# Altium footprint library Connectors.PcbLib: 38 footprints (part 1 of 3)
Each footprint in its own frame and in the unit in brackets; x right, y up, seen from the top. Pads: shape width x height; smd on the part's side, far side on the other; paste and mask are expansions set on the pad; w line width, h text height; cw(c..) or ccw(c..) is an arc to the next point about the centre after c.
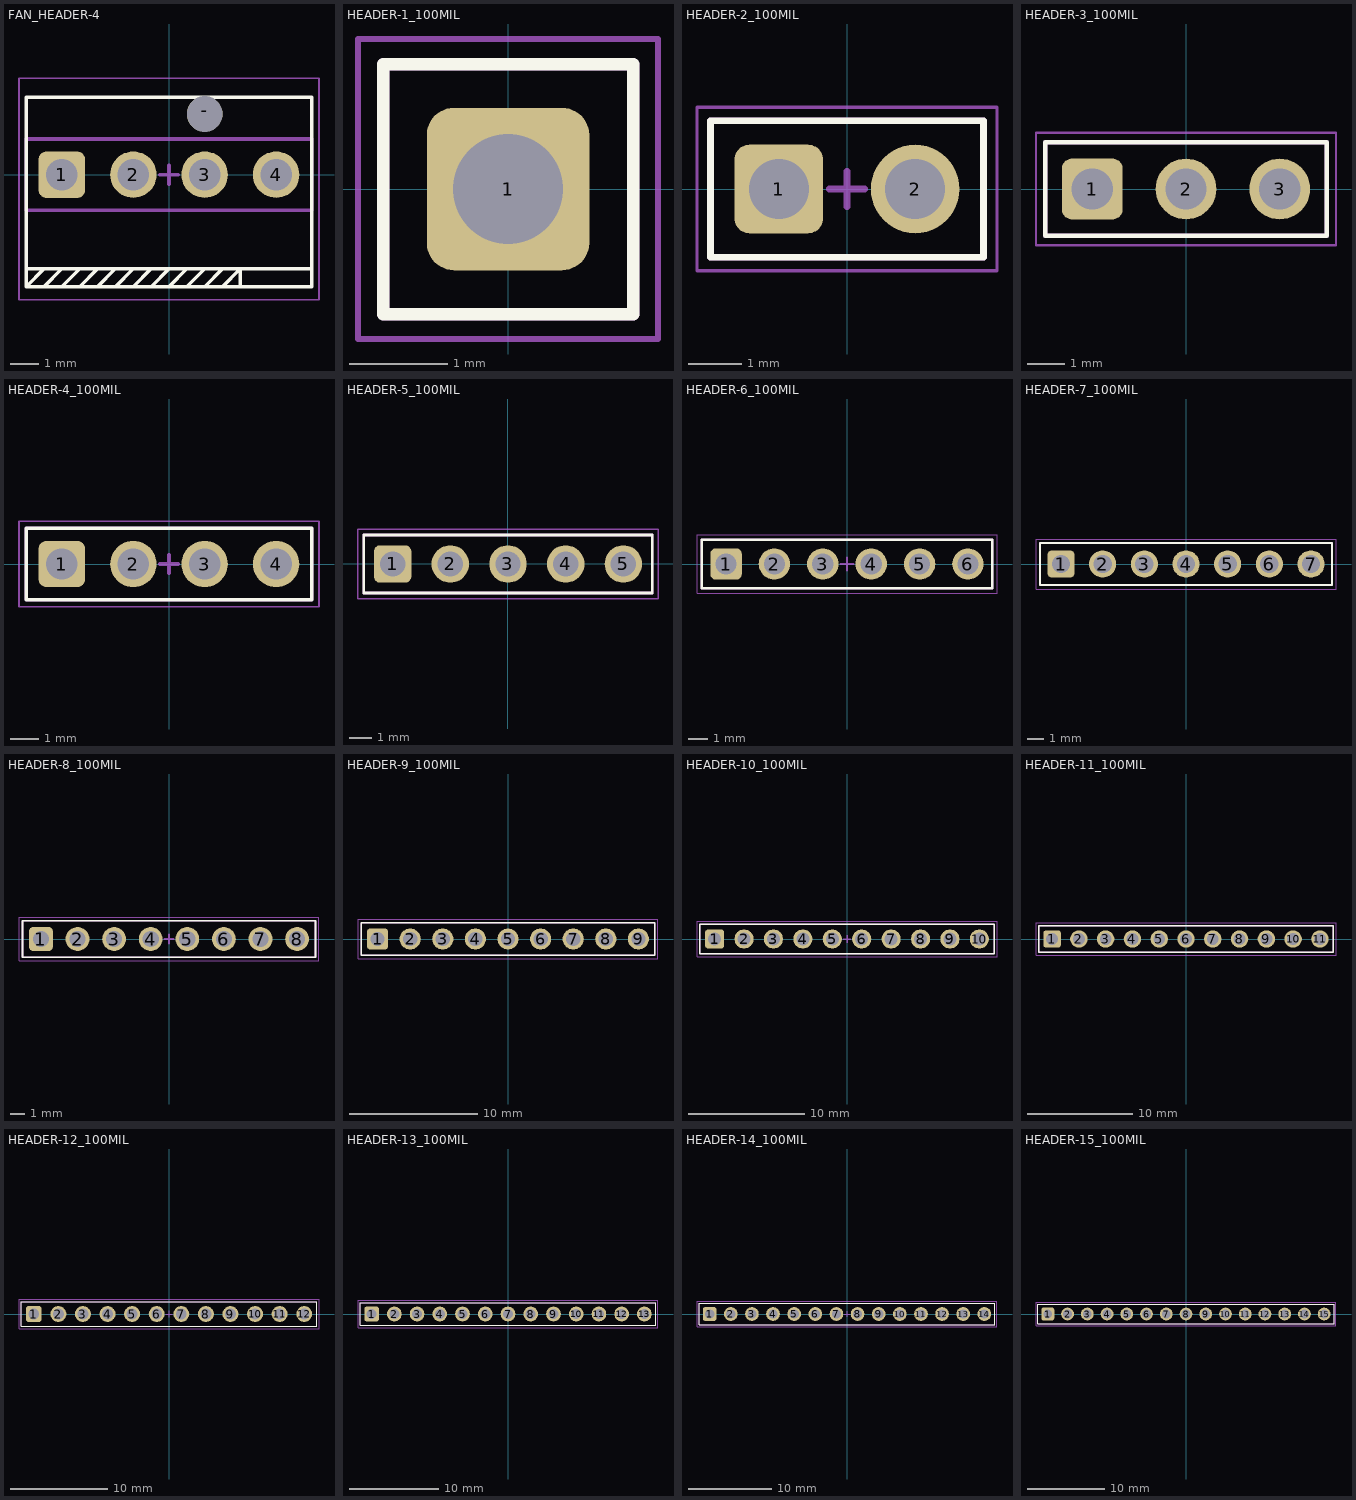
[diagram p0: the footprints below, top view; thin cyan lines are the x and y axes]

## FAN_HEADER-4 [mil] "0470531000"
height 140
pads (5):
  rrect33% 65x65 hole 44: 1(-150,0)
  round 65 hole 44: 2(-50,0) 3(50,0) 4(150,0)
  round 50 hole 50 unplated: -(50,85.04)
Top Overlay:
  lines w5: -200,-131.76 199.29,-131.76 ; -175.11,-131.86 -200,-156.76 ; -175,-156.76 -150.11,-131.86 ; -150,-156.76 -125.11,-131.86 ; -125,-156.76 -100.11,-131.86 ; -100,-156.76 -75.11,-131.86 ; -75,-156.76 -50.11,-131.86 ; -50,-156.76 -25.11,-131.86 ; -25,-156.76 -0.11,-131.86 ; 0,-156.76 24.89,-131.86 ; 25,-156.76 49.89,-131.86 ; 50,-156.76 74.89,-131.86 ; 75,-156.76 99.89,-131.86 ; 100,-156.76 100,-131.76 ; -200,-156.76 200,-156.76 200,108.24 -200,108.24 -200,-156.76
Top Designator:
  text "'.Comment'" at -85.76,-46.66 h20
  text ".Designator" at -100.75,-6.66 h20
Top Assembly (Mech13):
  circle w10: c-150,0 r2.5
  lines w5: -13,0 13,0 ; 0,-13 0,13 ; -200,-50 -200,50 200,50 200,-50 -200,-50
Top Courtyard (Mech15):
  lines w2.5: -210,-175 -210,135 210,135 210,-175 -210,-175
3D body "470531000.stp": height 394.2, standoff -137.29, extent -200.79,-129.92 200.79,100

## HEADER-1_100MIL [mil] "Based on 68000-101HLF"
height 425
pads (1):
  rrect33% 65x65 hole 44: 1(0,0)
Top Overlay:
  lines w5: -50,-50 -50,50 50,50 50,-50 -50,-50
Top Designator:
  text "'.Comment'" at -85.76,-46.66 h20
  text ".Designator" at -100.75,-6.66 h20
Top Assembly (Mech13):
  circle w10: c0,0 r2.5
  lines w5: -13,0 13,0 ; 0,-13 0,13 ; -50,-50 -50,50 50,50 50,-50 -50,-50
Top Courtyard (Mech15):
  lines w2.5: -60,-60 60,-60 60,60 -60,60 -60,-60
3D body "68000-101HLF--3DModel-STEP-56544.STEP": height 330.81, standoff -94.38, extent -50,-47.44 50,47.44

## HEADER-2_100MIL [mil]
height 425
pads (2):
  rrect33% 65x65 hole 44: 1(-50,0)
  round 65 hole 44: 2(50,0)
Top Overlay:
  lines w5: -100,-50 -100,50 100,50 100,-50 -100,-50
Top Designator:
  text "'.Comment'" at -85.76,-46.66 h20
  text ".Designator" at -100.75,-6.66 h20
Top Assembly (Mech13):
  circle w10: c-50,0 r2.5
  lines w5: -13,0 13,0 ; 0,-13 0,13 ; -100,-50 -100,50 100,50 100,-50 -100,-50
Top Courtyard (Mech15):
  lines w2.5: -110,-60 110,-60 110,60 -110,60 -110,-60
3D body "step_temp.STEP": height 330.31, standoff -94.88, extent -100,-47.44 100,47.44

## HEADER-3_100MIL [mil]
height 425
pads (3):
  rrect33% 65x65 hole 44: 1(-100,0)
  round 65 hole 44: 2(0,0) 3(100,0)
Top Overlay:
  lines w5: -150,-50 150,-50 150,50 -150,50 -150,-50
Top Designator:
  text "'.Comment'" at -85.76,-46.66 h20
  text ".Designator" at -100.75,-6.66 h20
Top Assembly (Mech13):
  circle w10: c-100,0 r2.5
  lines w5: -13,0 13,0 ; 0,-13 0,13 ; -150,-50 150,-50 150,50 -150,50 -150,-50
Top Courtyard (Mech15):
  lines w2.5: -160,-60 -160,60 160,60 160,-60 -160,-60
3D body "68000-103HLF.step": height 330.81, standoff -94.38, extent -150,-47.44 150,47.44

## HEADER-4_100MIL [mil]
height 425
pads (4):
  rrect33% 65x65 hole 44: 1(-150,0)
  round 65 hole 44: 2(-50,0) 3(50,0) 4(150,0)
Top Overlay:
  lines w5: -200,-50 200,-50 200,50 -200,50 -200,-50
Top Designator:
  text ".Designator" at -100.75,-6.66 h20
  text "'.Comment'" at -85.76,-46.66 h20
Top Assembly (Mech13):
  circle w10: c-150,0 r2.5
  lines w5: -13,0 13,0 ; 0,-13 0,13 ; -200,-50 200,-50 200,50 -200,50 -200,-50
Top Courtyard (Mech15):
  lines w2.5: -210,-60 -210,60 210,60 210,-60 -210,-60
3D body "68000-104HLF.step": height 330.81, standoff -94.38, extent -200,-47.44 200,47.44

## HEADER-5_100MIL [mil]
height 425
pads (5):
  rrect33% 65x65 hole 44: 1(-200,0)
  round 65 hole 44: 2(-100,0) 3(0,0) 4(100,0) 5(200,0)
Top Overlay:
  lines w5: -250,-50 -250,50 250,50 250,-50 -250,-50
Top Designator:
  text ".Designator" at -100.75,-6.66 h20
  text "'.Comment'" at -85.76,-46.66 h20
Top Assembly (Mech13):
  circle w10: c-200,0 r2.5
  lines w5: -13,0 13,0 ; 0,-13 0,13 ; -250,-50 -250,50 250,50 250,-50 -250,-50
Top Courtyard (Mech15):
  lines w2.5: -260,-60 260,-60 260,60 -260,60 -260,-60
3D body "68000-105HLF--3DModel-STEP-56544.STEP": height 330.81, standoff -94.38, extent -250,-47.44 250,47.44

## HEADER-6_100MIL [mil]
height 425
pads (6):
  rrect33% 65x65 hole 44: 1(-250,0)
  round 65 hole 44: 2(-150,0) 3(-50,0) 4(50,0) 5(150,0) 6(250,0)
Top Overlay:
  lines w5: -300,-50 -300,50 300,50 300,-50 -300,-50
Top Designator:
  text "'.Comment'" at -85.76,-46.66 h20
  text ".Designator" at -100.75,-6.66 h20
Top Assembly (Mech13):
  circle w10: c-250,0 r2.5
  lines w5: -13,0 13,0 ; 0,-13 0,13 ; -300,-50 -300,50 300,50 300,-50 -300,-50
Top Courtyard (Mech15):
  lines w2.5: -310,-60 310,-60 310,60 -310,60 -310,-60
3D body "68000-106HLF--3DModel-STEP-56544.STEP": height 330.81, standoff -94.38, extent -300,-47.44 300,47.44

## HEADER-7_100MIL [mil]
height 425
pads (7):
  rrect33% 65x65 hole 44: 1(-300,0)
  round 65 hole 44: 2(-200,0) 3(-100,0) 4(0,0) 5(100,0) 6(200,0) 7(300,0)
Top Overlay:
  lines w5: -350,-50 -350,50 350,50 350,-50 -350,-50
Top Designator:
  text "'.Comment'" at -85.76,-46.66 h20
  text ".Designator" at -100.75,-6.66 h20
Top Assembly (Mech13):
  circle w10: c-300,0 r2.5
  lines w5: -13,0 13,0 ; 0,-13 0,13 ; -350,-50 -350,50 350,50 350,-50 -350,-50
Top Courtyard (Mech15):
  lines w2.5: -360,-60 360,-60 360,60 -360,60 -360,-60
3D body "68000-107HLF--3DModel-STEP-56544.STEP": height 330.81, standoff -94.38, extent -350,-47.44 350,47.44

## HEADER-8_100MIL [mil]
height 425
pads (8):
  rrect33% 65x65 hole 44: 1(-350,0)
  round 65 hole 44: 2(-250,0) 3(-150,0) 4(-50,0) 5(50,0) 6(150,0) 7(250,0) 8(350,0)
Top Overlay:
  lines w5: -400,-50 400,-50 400,50 -400,50 -400,-50
Top Designator:
  text "'.Comment'" at -85.76,-46.66 h20
  text ".Designator" at -100.75,-6.66 h20
Top Assembly (Mech13):
  circle w10: c-350,0 r2.5
  lines w5: -13,0 13,0 ; 0,-13 0,13 ; -400,-50 400,-50 400,50 -400,50 -400,-50
Top Courtyard (Mech15):
  lines w2.5: -410,-60 -410,60 410,60 410,-60 -410,-60
3D body "68000-108HLF--3DModel-STEP-56544.STEP": height 330.81, standoff -94.38, extent -400,-47.44 400,47.44

## HEADER-9_100MIL [mil]
height 425
pads (9):
  rrect33% 65x65 hole 44: 1(-400,0)
  round 65 hole 44: 2(-300,0) 3(-200,0) 4(-100,0) 5(0,0) 6(100,0) 7(200,0) 8(300,0) 9(400,0)
Top Overlay:
  lines w5: -450,-50 -450,50 450,50 450,-50 -450,-50
Top Designator:
  text "'.Comment'" at -85.76,-46.66 h20
  text ".Designator" at -100.75,-6.66 h20
Top Assembly (Mech13):
  circle w10: c-400,0 r2.5
  lines w5: -13,0 13,0 ; 0,-13 0,13 ; -450,-50 -450,50 450,50 450,-50 -450,-50
Top Courtyard (Mech15):
  lines w2.5: -460,-60 460,-60 460,60 -460,60 -460,-60
3D body "68000-109HLF--3DModel-STEP-56544.STEP": height 330.81, standoff -94.38, extent -450,-47.44 450,47.44

## HEADER-10_100MIL [mil]
height 425
pads (10):
  rrect33% 65x65 hole 44: 1(-450,0)
  round 65 hole 44: 2(-350,0) 3(-250,0) 4(-150,0) 5(-50,0) 6(50,0) 7(150,0) 8(250,0) 9(350,0) 10(450,0)
Top Overlay:
  lines w5: -500,-50 -500,50 500,50 500,-50 -500,-50
Top Designator:
  text "'.Comment'" at -85.76,-46.66 h20
  text ".Designator" at -100.75,-6.66 h20
Top Assembly (Mech13):
  circle w10: c-450,0 r2.5
  lines w5: -13,0 13,0 ; 0,-13 0,13 ; -500,-50 -500,50 500,50 500,-50 -500,-50
Top Courtyard (Mech15):
  lines w2.5: -510,-60 510,-60 510,60 -510,60 -510,-60
3D body "68000-110HLF--3DModel-STEP-56544.STEP": height 330.81, standoff -94.38, extent -500,-47.44 500,47.44

## HEADER-11_100MIL [mil]
height 425
pads (11):
  rrect33% 65x65 hole 44: 1(-500,0)
  round 65 hole 44: 2(-400,0) 3(-300,0) 4(-200,0) 5(-100,0) 6(0,0) 7(100,0) 8(200,0) 9(300,0) 10(400,0) 11(500,0)
Top Overlay:
  lines w5: -550,-50 550,-50 550,50 -550,50 -550,-50
Top Designator:
  text "'.Comment'" at -85.76,-46.66 h20
  text ".Designator" at -100.75,-6.66 h20
Top Assembly (Mech13):
  circle w10: c-500,0 r2.5
  lines w5: -13,0 13,0 ; 0,-13 0,13 ; -550,-50 550,-50 550,50 -550,50 -550,-50
Top Courtyard (Mech15):
  lines w2.5: -560,-60 -560,60 560,60 560,-60 -560,-60
3D body "68000-111HLF--3DModel-STEP-56544.STEP": height 330.81, standoff -94.38, extent -550,-47.44 550,47.44

## HEADER-12_100MIL [mil]
height 425
pads (12):
  rrect33% 65x65 hole 44: 1(-550,0)
  round 65 hole 44: 2(-450,0) 3(-350,0) 4(-250,0) 5(-150,0) 6(-50,0) 7(50,0) 8(150,0) 9(250,0) 10(350,0) 11(450,0) 12(550,0)
Top Overlay:
  lines w5: -600,-50 600,-50 600,50 -600,50 -600,-50
Top Designator:
  text "'.Comment'" at -85.76,-46.66 h20
  text ".Designator" at -100.75,-6.66 h20
Top Assembly (Mech13):
  circle w10: c-550,0 r2.5
  lines w5: -13,0 13,0 ; 0,-13 0,13 ; -600,-50 600,-50 600,50 -600,50 -600,-50
Top Courtyard (Mech15):
  lines w2.5: -610,-60 -610,60 610,60 610,-60 -610,-60
3D body "68000-112HLF--3DModel-STEP-56544.STEP": height 330.81, standoff -94.38, extent -600,-47.44 600,47.44

## HEADER-13_100MIL [mil]
height 425
pads (13):
  rrect33% 65x65 hole 44: 1(-600,0)
  round 65 hole 44: 2(-500,0) 3(-400,0) 4(-300,0) 5(-200,0) 6(-100,0) 7(0,0) 8(100,0) 9(200,0) 10(300,0) 11(400,0) 12(500,0) 13(600,0)
Top Overlay:
  lines w5: -650,-50 -650,50 650,50 650,-50 -650,-50
Top Designator:
  text "'.Comment'" at -85.76,-46.66 h20
  text ".Designator" at -100.75,-6.66 h20
Top Assembly (Mech13):
  circle w10: c-600,0 r2.5
  lines w5: -13,0 13,0 ; 0,-13 0,13 ; -650,-50 -650,50 650,50 650,-50 -650,-50
Top Courtyard (Mech15):
  lines w2.5: -660,-60 660,-60 660,60 -660,60 -660,-60
3D body "68000-113HLF--3DModel-STEP-56544.STEP": height 330.81, standoff -94.38, extent -650,-47.44 650,47.44

## HEADER-14_100MIL [mil]
height 425
pads (14):
  rrect33% 65x65 hole 44: 1(-650,0)
  round 65 hole 44: 2(-550,0) 3(-450,0) 4(-350,0) 5(-250,0) 6(-150,0) 7(-50,0) 8(50,0) 9(150,0) 10(250,0) 11(350,0) 12(450,0) 13(550,0) 14(650,0)
Top Overlay:
  lines w5: -700,-50 700,-50 700,50 -700,50 -700,-50
Top Designator:
  text ".Designator" at -100.75,-6.66 h20
  text "'.Comment'" at -85.76,-46.66 h20
Top Assembly (Mech13):
  circle w10: c-650,0 r2.5
  lines w5: -13,0 13,0 ; 0,-13 0,13 ; -700,-50 700,-50 700,50 -700,50 -700,-50
Top Courtyard (Mech15):
  lines w2.5: -710,-60 -710,60 710,60 710,-60 -710,-60
3D body "68000-114HLF--3DModel-STEP-56544.STEP": height 330.81, standoff -94.38, extent -700,-47.44 700,47.44

## HEADER-15_100MIL [mil]
height 425
pads (15):
  rrect33% 65x65 hole 44: 1(-700,0)
  round 65 hole 44: 2(-600,0) 3(-500,0) 4(-400,0) 5(-300,0) 6(-200,0) 7(-100,0) 8(0,0) 9(100,0) 10(200,0) 11(300,0) 12(400,0) 13(500,0) 14(600,0) 15(700,0)
Top Overlay:
  lines w5: -750,-50 750,-50 750,50 -750,50 -750,-50
Top Designator:
  text "'.Comment'" at -85.76,-46.66 h20
  text ".Designator" at -100.75,-6.66 h20
Top Assembly (Mech13):
  circle w10: c-700,0 r2.5
  lines w5: -13,0 13,0 ; 0,-13 0,13 ; -750,-50 750,-50 750,50 -750,50 -750,-50
Top Courtyard (Mech15):
  lines w2.5: -760,-60 -760,60 760,60 760,-60 -760,-60
3D body "68000-115HLF--3DModel-STEP-56544.STEP": height 330.81, standoff -94.38, extent -750,-47.44 750,47.44